# Altium schematic symbol library SparkFun-Clocks.SCHLIB: 44 symbols
Pins are listed as number, name and electrical type; pins without a type are passive.

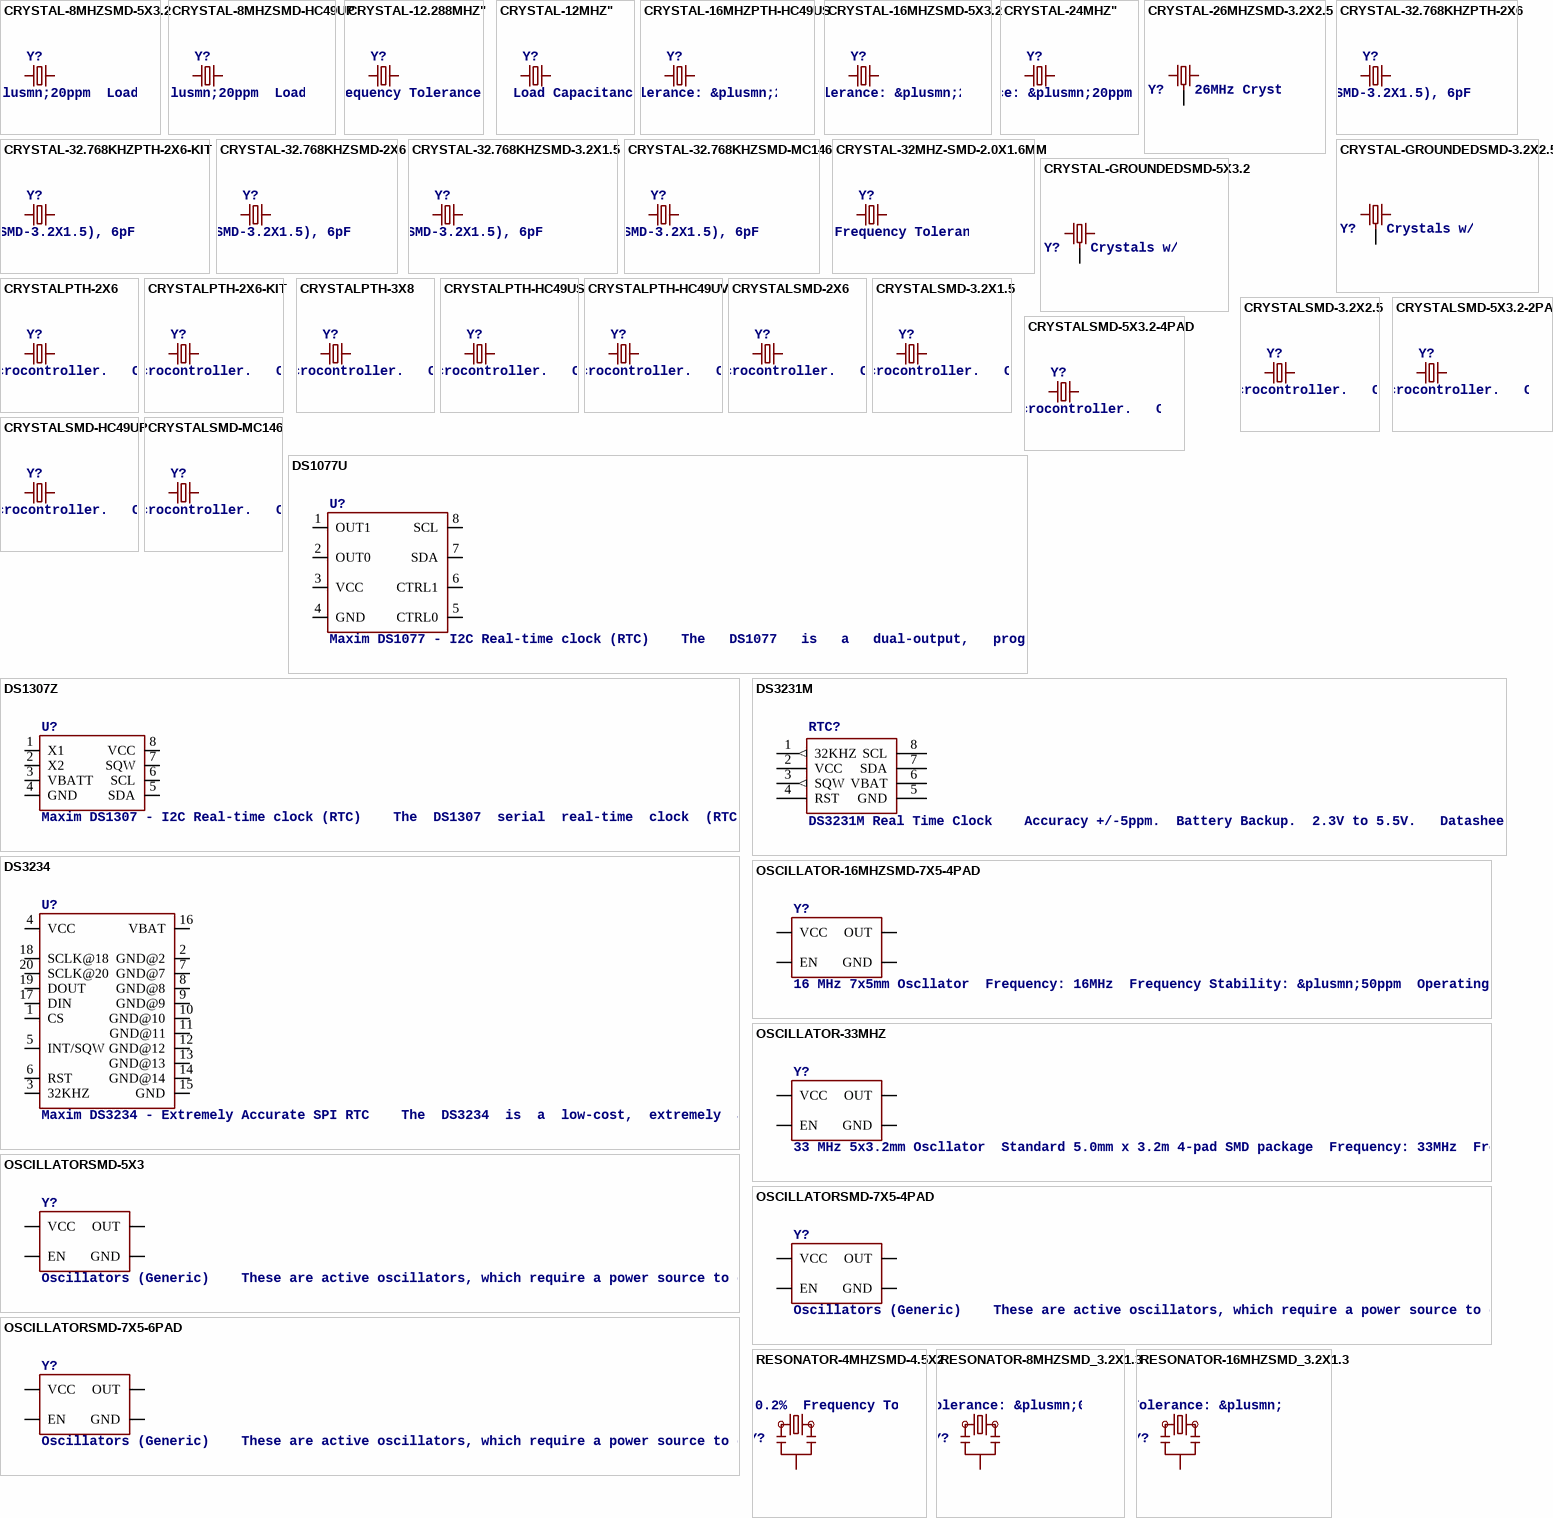
[diagram p0: symbols CRYSTAL-8MHZSMD-5X3.2 to RESONATOR-16MHZSMD_3.2X1.3]

## CRYSTAL-8MHZSMD-5X3.2
designator Y?, comment 8MHz Crystal    Datasheet Example Frequency: 8MHz  Frequency Tolerance: &plusmn;20ppm  Load Capacitance: 18pF       SparkFun Products: Pro Micro -3.3V/8MHz  WAV Trigger
PROD_ID: XTAL-09431
footprint CRYSTAL-SMD-5X3.2-4PAD
pins: 1, 3 2

## CRYSTAL-8MHZSMD-HC49UP
designator Y?, comment 8MHz Crystal    Datasheet Example Frequency: 8MHz  Frequency Tolerance: &plusmn;20ppm  Load Capacitance: 18pF       SparkFun Products: Pro Micro -3.3V/8MHz  WAV Trigger
PROD_ID: XTAL-11706
footprint HC49UP
pins: 1, 2

## CRYSTAL-12.288MHZ"
designator Y?, comment 12.288MHz Crystal    Digikey Example Frequency: 12.288MHz  Frequency Stability: &plusmn;50ppm  Frequency Tolerance: &plusmn;20ppm  Load Capacitance: 18pF       SparkFun Products: MP3 Trigger  SparkFun MP3 Player Shield
PROD_ID: XTAL-09653
footprint CRYSTAL-SMD-5X3.2-4PAD
pins: 1, 3 2

## CRYSTAL-12MHZ"
designator Y?, comment 12.0MHz Crystal  Frequency: 12.0MHz  Frequency Tolerance: &plusmn;20ppm  Load Capacitance: 18pF       SparkFun Products: SparkFun Logomatic  Pocket AVR Programmer
PROD_ID: XTAL-08297
footprint CRYSTAL-SMD-5X3.2-4PAD
pins: 1, 3 2

## CRYSTAL-16MHZPTH-HC49US
designator Y?, comment 16MHz Crystal    Digikey Example Frequency: 16MHz  Frequency Stability: &plusmn;50ppm  Frequency Tolerance: &plusmn;20ppm  Load Capacitance: 18pF       SparkFun Products: Pro Micro -5V/16MHz  SparkFun Serial Enabled LCD Kit
PROD_ID: XTAL-08181; SF_ID: COM-00536
footprint HC49US
pins: 1, 2

## CRYSTAL-16MHZSMD-5X3.2
designator Y?, comment 16MHz Crystal    Digikey Example Frequency: 16MHz  Frequency Stability: &plusmn;50ppm  Frequency Tolerance: &plusmn;20ppm  Load Capacitance: 18pF       SparkFun Products: Pro Micro -5V/16MHz  SparkFun Serial Enabled LCD Kit
PROD_ID: XTAL-08218; SF_ID: COM-00094
footprint CRYSTAL-SMD-5X3.2-4PAD
pins: 1, 3 2

## CRYSTAL-24MHZ"
designator Y?, comment 24MHz Crystal    Datasheet Frequency: 24MHz  Frequency Tolerance: &plusmn;20ppm  Load Capacitance: 12pF       SparkFun Products: USB Bit Whacker
PROD_ID: XTAL-08298; SF_ID: COM-08581
footprint CRYSTAL-SMD-5X3.2-4PAD
pins: 1, 3 2

## CRYSTAL-26MHZSMD-3.2X2.5
designator Y?, comment 26MHz Crystal w/ Ground Pin    Digikey Example Frequency: 26MHz  Frequency Stability: &plusmn;9ppm  Frequency Tolerance: &plusmn;10ppm  Load Capacitance: 9pF       SparkFun Products: SparkFun ESP32 Thing  SparkFun ESP8266 Thing Dev Board
PROD_ID: XTAL-12454
footprint CRYSTAL-SMD-3.2X2.5MM
pins: 1, 2 4 3, 3 2

## CRYSTAL-32.768KHZPTH-2X6
designator Y?, comment 32.768kHz Crystal  Frequency: 32.768kHz  Frequency Stability: &plusmn;20ppm  Load Capacitance: 12.5pF (PTH-2X6 & SMD-3.2X1.5), 6pF (SMD-2X6)       SparkFun Products: SparkFun BigTime Watch Kit  SparkFun nRF52832 Breakout  SparkFun Real Time Clock Module
PROD_ID: XTAL-10112
footprint CRYSTAL-PTH-2X6-CYL
pins: 1, 2

## CRYSTAL-32.768KHZPTH-2X6-KIT
designator Y?, comment 32.768kHz Crystal  Frequency: 32.768kHz  Frequency Stability: &plusmn;20ppm  Load Capacitance: 12.5pF (PTH-2X6 & SMD-3.2X1.5), 6pF (SMD-2X6)       SparkFun Products: SparkFun BigTime Watch Kit  SparkFun nRF52832 Breakout  SparkFun Real Time Clock Module
PROD_ID: XTAL-10112
footprint CRYSTAL-PTH-2X6-CYL-KIT
pins: 1, 2

## CRYSTAL-32.768KHZSMD-2X6
designator Y?, comment 32.768kHz Crystal  Frequency: 32.768kHz  Frequency Stability: &plusmn;20ppm  Load Capacitance: 12.5pF (PTH-2X6 & SMD-3.2X1.5), 6pF (SMD-2X6)       SparkFun Products: SparkFun BigTime Watch Kit  SparkFun nRF52832 Breakout  SparkFun Real Time Clock Module
PROD_ID: XTAL-07894
footprint CRYSTAL-SMD-2X6-CYL
pins: X1 1, X2 2

## CRYSTAL-32.768KHZSMD-3.2X1.5
designator Y?, comment 32.768kHz Crystal  Frequency: 32.768kHz  Frequency Stability: &plusmn;20ppm  Load Capacitance: 12.5pF (PTH-2X6 & SMD-3.2X1.5), 6pF (SMD-2X6)       SparkFun Products: SparkFun BigTime Watch Kit  SparkFun nRF52832 Breakout  SparkFun Real Time Clock Module
PROD_ID: XTAL-13062
footprint CRYSTAL-SMD-3.2X1.5MM
pins: P$1 1, P$2 2

## CRYSTAL-32.768KHZSMD-MC146
designator Y?, comment 32.768kHz Crystal  Frequency: 32.768kHz  Frequency Stability: &plusmn;20ppm  Load Capacitance: 12.5pF (PTH-2X6 & SMD-3.2X1.5), 6pF (SMD-2X6)       SparkFun Products: SparkFun BigTime Watch Kit  SparkFun nRF52832 Breakout  SparkFun Real Time Clock Module
PROD_ID: XTAL-09342
footprint CRYSTAL-SMD-MC-146
pins: P$1 2, P$2 1

## CRYSTAL-32MHZ-SMD-2.0X1.6MM
designator Y?, comment 32MHz Crystal    Digikey Example Frequency: 32MHz  Frequency Stability: ±20ppm  Frequency Tolerance: ±20ppm  Load Capacitance: 6pF       SparkFun Products SparkFun nRF52832 Breakout
PROD_ID: XTAL-13459
footprint CRYSTAL-SMD-2.0X1.6MM
pins: 1, 3 2

## CRYSTAL-GROUNDEDSMD-3.2X2.5
designator Y?, comment Crystals w/ Ground Pin (Generic)    These are passive quartz crystals, which can be used as a clock source for a microcontroller.   Crystal's are usually two-terminal devices. A third terminal may be optionally connected to ground, as recommended by the manufaturer.
footprint CRYSTAL-SMD-3.2X2.5MM
pins: 1, 2 4 3, 3 2

## CRYSTAL-GROUNDEDSMD-5X3.2
designator Y?, comment Crystals w/ Ground Pin (Generic)    These are passive quartz crystals, which can be used as a clock source for a microcontroller.   Crystal's are usually two-terminal devices. A third terminal may be optionally connected to ground, as recommended by the manufaturer.
footprint CRYSTAL-SMD-5X3.2-4PAD
pins: 1 2, 2 4 3, 3 1

## CRYSTALPTH-2X6
designator Y?, comment Crystals (Generic)    These are passive quartz crystals, which can be used as a clock source for a microcontroller.   Crystal's are two-terminal devices. They require external "load" capacitors to generate an oscillating signal.
footprint CRYSTAL-PTH-2X6-CYL
pins: 1, 2

## CRYSTALPTH-2X6-KIT
designator Y?, comment Crystals (Generic)    These are passive quartz crystals, which can be used as a clock source for a microcontroller.   Crystal's are two-terminal devices. They require external "load" capacitors to generate an oscillating signal.
footprint CRYSTAL-PTH-2X6-CYL-KIT
pins: 1, 2

## CRYSTALPTH-3X8
designator Y?, comment Crystals (Generic)    These are passive quartz crystals, which can be used as a clock source for a microcontroller.   Crystal's are two-terminal devices. They require external "load" capacitors to generate an oscillating signal.
footprint CRYSTAL-PTH-3X8-CYL
pins: 1, 2

## CRYSTALPTH-HC49US
designator Y?, comment Crystals (Generic)    These are passive quartz crystals, which can be used as a clock source for a microcontroller.   Crystal's are two-terminal devices. They require external "load" capacitors to generate an oscillating signal.
footprint HC49US
pins: 1, 2

## CRYSTALPTH-HC49UV
designator Y?, comment Crystals (Generic)    These are passive quartz crystals, which can be used as a clock source for a microcontroller.   Crystal's are two-terminal devices. They require external "load" capacitors to generate an oscillating signal.
footprint HC49U
pins: 1, 2

## CRYSTALSMD-2X6
designator Y?, comment Crystals (Generic)    These are passive quartz crystals, which can be used as a clock source for a microcontroller.   Crystal's are two-terminal devices. They require external "load" capacitors to generate an oscillating signal.
footprint CRYSTAL-SMD-2X6-CYL
pins: X1 1, X2 2

## CRYSTALSMD-3.2X1.5
designator Y?, comment Crystals (Generic)    These are passive quartz crystals, which can be used as a clock source for a microcontroller.   Crystal's are two-terminal devices. They require external "load" capacitors to generate an oscillating signal.
footprint CRYSTAL-SMD-3.2X1.5MM
pins: P$1 1, P$2 2

## CRYSTALSMD-3.2X2.5
designator Y?, comment Crystals (Generic)    These are passive quartz crystals, which can be used as a clock source for a microcontroller.   Crystal's are two-terminal devices. They require external "load" capacitors to generate an oscillating signal.
footprint CRYSTAL-SMD-3.2X2.5MM
pins: 1, 3 2

## CRYSTALSMD-5X3.2-2PAD
designator Y?, comment Crystals (Generic)    These are passive quartz crystals, which can be used as a clock source for a microcontroller.   Crystal's are two-terminal devices. They require external "load" capacitors to generate an oscillating signal.
footprint CRYSTAL-SMD-5X3.2-2PAD
pins: P$1 1, P$2 2

## CRYSTALSMD-5X3.2-4PAD
designator Y?, comment Crystals (Generic)    These are passive quartz crystals, which can be used as a clock source for a microcontroller.   Crystal's are two-terminal devices. They require external "load" capacitors to generate an oscillating signal.
footprint CRYSTAL-SMD-5X3.2-4PAD
pins: 1, 3 2

## CRYSTALSMD-HC49UP
designator Y?, comment Crystals (Generic)    These are passive quartz crystals, which can be used as a clock source for a microcontroller.   Crystal's are two-terminal devices. They require external "load" capacitors to generate an oscillating signal.
footprint HC49UP
pins: 1, 2

## CRYSTALSMD-MC146
designator Y?, comment Crystals (Generic)    These are passive quartz crystals, which can be used as a clock source for a microcontroller.   Crystal's are two-terminal devices. They require external "load" capacitors to generate an oscillating signal.
footprint CRYSTAL-SMD-MC-146
pins: P$1 2, P$2 1

## DS1077U
designator U?, comment Maxim DS1077 - I2C Real-time clock (RTC)    The   DS1077   is   a   dual-output,   programmable,   fixed-frequency   oscillator   requiring   no   external   components for operation. The DS1077 can be used as a processor-controlled frequency synthesizer or as  a  standalone  oscillator.   The  DS1077  features  a  2-wire  serial  interface  that  allows  in-circuit  on-the-fly  programming  of the  programmable  prescalers  (P0  &  P1)  and  divider  (N)  with  the  desired  values  being  stored  in  NV  (EEPROM)   memory.   SparkFun Products:  Real Time Clock Module (BOB-00099)       Datasheet
PROD_ID: IC-09075
footprint SO08-0.15
pins: 1 OUT1, 2 OUT0, 3 VCC, 4 GND, 5 CTRL0, 6 CTRL1, 7 SDA, 8 SCL

## DS1307Z
designator U?, comment Maxim DS1307 - I2C Real-time clock (RTC)    The  DS1307  serial  real-time  clock  (RTC)  is  a  low-power, full binary-coded decimal (BCD) clock/calendar plus  56  bytes  of  NV  SRAM.  Address  and  data  are transferred  serially  through  an  I2C,  bidirectional  bus. The clock/calendar provides seconds, minutes, hours, day,  date,  month,  and  year  information.   SparkFun Products:  Real Time Clock Module (BOB-12708)       Datasheet
PROD_ID: IC-08138
footprint SO08-0.15
pins: 1 X1, 2 X2, 3 VBATT, 4 GND, 5 SDA, 6 SCL, 7 SQW, 8 VCC

## DS3231M
designator RTC?, comment DS3231M Real Time Clock    Accuracy +/-5ppm.  Battery Backup.  2.3V to 5.5V.   Datasheet SparkFun Products  CryptoCape (DEV-12773)  SparkFun CryptoShield (DEV-13183)
PROD_ID: IC-11985
footprint SO08
pins: 1 32KHZ (out), 2 VCC (power), 3 SQW (out), 4 RST, 5 GND (power), 6 VBAT (power), 7 SDA, 8 SCL

## DS3234
designator U?, comment Maxim DS3234 - Extremely Accurate SPI RTC    The  DS3234  is  a  low-cost,  extremely  accurate  SPI™  bus real-time clock (RTC) with an integrated temperature-compensated crystal oscillator (TCXO) and crystal.   SparkFun Products:  Real Time Clock - DS3234 (COM-10079)  SparkFun DeadOn RTC Breakout (BOB-10160)       Datasheet
PROD_ID: IC-10016; SF_ID: COM-10079
footprint SO20-0.3
pins: 1 CS, 2 GND@2, 3 32KHZ, 4 VCC, 5 INT/SQW, 6 RST, 7 GND@7, 8 GND@8, 9 GND@9, 10 GND@10, 11 GND@11, 12 GND@12, 13 GND@13, 14 GND@14, 15 GND, 16 VBAT, 17 DIN, 18 SCLK@18, 19 DOUT, 20 SCLK@20

## OSCILLATOR-16MHZSMD-7X5-4PAD
designator Y?, comment 16 MHz 7x5mm Oscllator  Frequency: 16MHz  Frequency Stability: &plusmn;50ppm  Operating Voltage: 3.3V        Datasheet Example SparkFun MiniGen
PROD_ID: XTAL-11225
footprint OSCILLATOR-SMD-7X5-4PAD
pins: 1 EN, 2 GND, 3 OUT, 4 VCC

## OSCILLATOR-33MHZ
designator Y?, comment 33 MHz 5x3.2mm Oscllator  Standard 5.0mm x 3.2m 4-pad SMD package  Frequency: 33MHz  Frequency Stability: &plusmn;50ppm  Operating Voltage: 3.3V       Example datasheet    SparkFun Products: SparkFun CryptoCape
PROD_ID: XTAL-11986
footprint OSCILLATOR-SMD-5X3.2
pins: 1 EN, 2 GND, 3 OUT, 4 VCC

## OSCILLATORSMD-5X3
designator Y?, comment Oscillators (Generic)    These are active oscillators, which require a power source to generate their clock output. Most oscillators are configured to generate a set frequency (e.g. 16MHz).   They have four pins: power, ground, output, and an enable input.
footprint OSCILLATOR-SMD-5X3.2
pins: 1 EN, 2 GND, 3 OUT, 4 VCC

## OSCILLATORSMD-7X5-4PAD
designator Y?, comment Oscillators (Generic)    These are active oscillators, which require a power source to generate their clock output. Most oscillators are configured to generate a set frequency (e.g. 16MHz).   They have four pins: power, ground, output, and an enable input.
footprint OSCILLATOR-SMD-7X5-4PAD
pins: 1 EN, 2 GND, 3 OUT, 4 VCC

## OSCILLATORSMD-7X5-6PAD
designator Y?, comment Oscillators (Generic)    These are active oscillators, which require a power source to generate their clock output. Most oscillators are configured to generate a set frequency (e.g. 16MHz).   They have four pins: power, ground, output, and an enable input.
footprint OSCILLATOR-SMD-7.5X5.2-6PIN
pins: 1 EN, 2 GND, 3 OUT, 4 VCC

## RESONATOR-4MHZSMD-4.5X2
designator Y?, comment 4MHz Resonator    Digikey Example Frequency: 4MHz  Frequency Stability: &plusmn;0.2%  Frequency Tolerance: &plusmn;0.5%  Capacitance: 15pF       SparkFun Products SparkFun BadgerHack
PROD_ID: XTAL-12492
footprint RESONATOR-SMD-4.5X2.0
pins: 1, 2, 3

## RESONATOR-8MHZSMD_3.2X1.3
designator Y?, comment 8MHz Resonator    Digikey Example Frequency: 8MHz  Frequency Stability: &plusmn;0.2%  Frequency Tolerance: &plusmn;0.5%  Capacitance: 33pF       SparkFun Products Arduino Pro Mini 328- 3.3V/8MHz  SparkFun Digital Sandbox
PROD_ID: XTAL-08895
footprint RESONATOR-SMD-3.2X1.3
pins: 1, 2, 3

## RESONATOR-16MHZSMD_3.2X1.3
designator Y?, comment 16MHz Resonator    Digikey Example Frequency: 16MHz  Frequency Stability: &plusmn;0.3%  Frequency Tolerance: &plusmn;0.5%  Capacitance: 15pF       SparkFun Products SparkFun OpenLog  SparkFun MicroView - OLED Arduino Module
PROD_ID: XTAL-08900
footprint RESONATOR-SMD-3.2X1.3
pins: 1, 2, 3

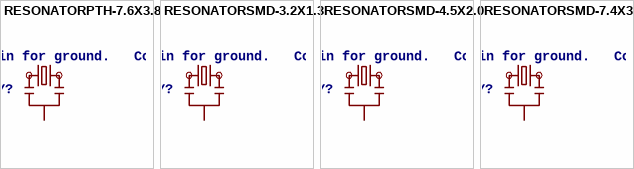
[diagram p1: symbols RESONATORPTH-7.6X3.8 to RESONATORSMD-7.4X3.4]

## RESONATORPTH-7.6X3.8
designator Y?, comment Resonators (Generic)    Ceramic resonators are clock-generating components, often used to control timing in microcontrollers. They usually have 3 pins: two pins for oscillation, and one pin for ground.   Compared to crystals, resonators have worse tolerance, but are usually much cheaper. Plus, they have built-in load capacitors!   These devices are used on boards like the Arduino Pro 8MHz and Arduino Pro 16MHz.
footprint RESONATOR-PTH-7.6X3.8
pins: 1, 2, 3

## RESONATORSMD-3.2X1.3
designator Y?, comment Resonators (Generic)    Ceramic resonators are clock-generating components, often used to control timing in microcontrollers. They usually have 3 pins: two pins for oscillation, and one pin for ground.   Compared to crystals, resonators have worse tolerance, but are usually much cheaper. Plus, they have built-in load capacitors!   These devices are used on boards like the Arduino Pro 8MHz and Arduino Pro 16MHz.
footprint RESONATOR-SMD-3.2X1.3
pins: 1, 2, 3

## RESONATORSMD-4.5X2.0
designator Y?, comment Resonators (Generic)    Ceramic resonators are clock-generating components, often used to control timing in microcontrollers. They usually have 3 pins: two pins for oscillation, and one pin for ground.   Compared to crystals, resonators have worse tolerance, but are usually much cheaper. Plus, they have built-in load capacitors!   These devices are used on boards like the Arduino Pro 8MHz and Arduino Pro 16MHz.
footprint RESONATOR-SMD-4.5X2.0
pins: 1, 2, 3

## RESONATORSMD-7.4X3.4
designator Y?, comment Resonators (Generic)    Ceramic resonators are clock-generating components, often used to control timing in microcontrollers. They usually have 3 pins: two pins for oscillation, and one pin for ground.   Compared to crystals, resonators have worse tolerance, but are usually much cheaper. Plus, they have built-in load capacitors!   These devices are used on boards like the Arduino Pro 8MHz and Arduino Pro 16MHz.
footprint RESONATOR-SMD-7.4X3.4
pins: 1, 2, 3